# Altium integrated library 5 Pin 5Pos THT BergeStick 2.54MM Amphenol68002-405HLF.IntLib: 1 symbol
Pins are listed as number, name and electrical type; pins without a type are passive.

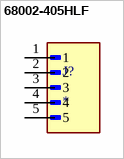
[diagram p0: symbol 68002-405HLF]

## 68002-405HLF
designator J?
MP: 68002-405HLF; Package: None; Price: None; Value: *; Availability: Unavailable
footprint AMPHENOL_68002-405HLF
pins: 1, 2, 3, 4, 5